# EAGLE library part ATTINY25-45-85_ (library NVSL)
Atmel ATtiny 25/45/85 Microcontroller with 2/4/8K Flash, 128/256/512 bytes EEPROM, and 128/256/512 bytes SRAM
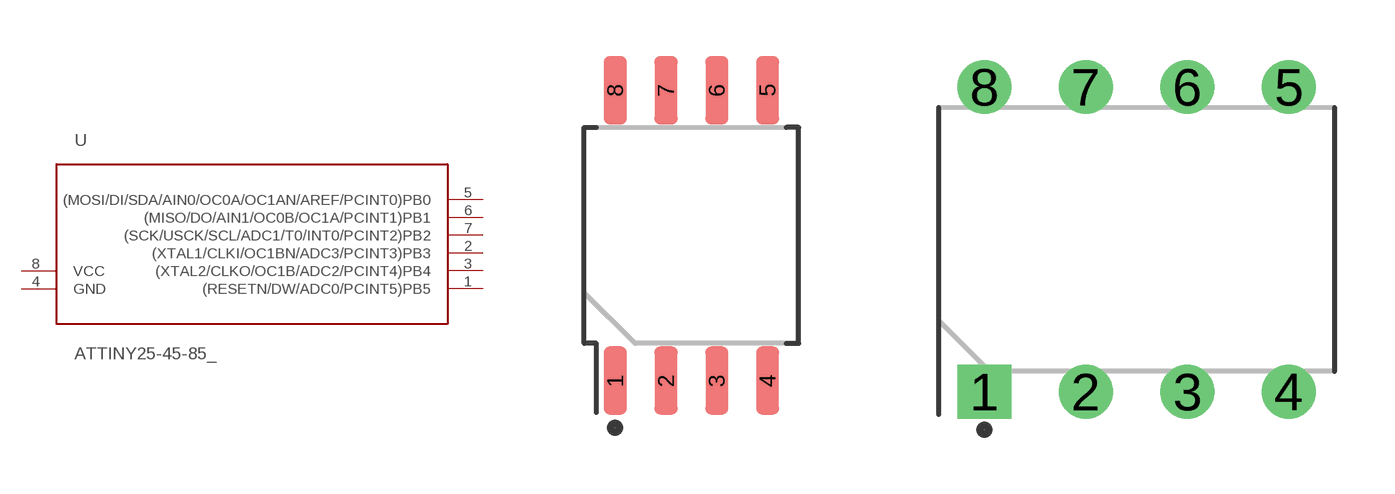
[diagram p6: symbol with the pads of SOIC127P798X216-8L34_HS; footprints SOIC127P798X216-8L34_HS, DIP762W26P254L990H368Q8_HS]

Designator prefix U

## ATTINY25-45-85_SMD-SOIC8-EIAJ  [SOIC127P798X216-8L34_HS]
1  (RESETN/DW/ADC0/PCINT5)PB5
2  (XTAL1/CLKI/OC1BN/ADC3/PCINT3)PB3
3  (XTAL2/CLKO/OC1B/ADC2/PCINT4)PB4
4  GND  pwr
5  (MOSI/DI/SDA/AIN0/OC0A/OC1AN/AREF/PCINT0)PB0
6  (MISO/DO/AIN1/OC0B/OC1A/PCINT1)PB1
7  (SCK/USCK/SCL/ADC1/T0/INT0/PCINT2)PB2
8  VCC  pwr

## ATTINY25-45-85_TH-DIP8  [DIP762W26P254L990H368Q8_HS]
Pads as for SOIC127P798X216-8L34_HS

## Footprint SOIC127P798X216-8L34_HS (pad centres in mm)
Small Outline IC (SOIC), 1.27 mm pitch; 8 pin, 5.24 mm L X 5.29 mm W X 2.16 mm H body PCB Libraries Packages
smd 0.58 x 1.71: 1 -1.905,-3.63; 2 -0.635,-3.63; 3 0.635,-3.63; 4 1.905,-3.63; 5 1.905,3.63; 6 0.635,3.63; 7 -0.635,3.63; 8 -1.905,3.63

## Footprint DIP762W26P254L990H368Q8_HS (pad centres in mm)
DIP, 7.62 mm lead span, 2.54 mm pitch; 8 pin, 9.906 mm L X 6.604 mm W X 3.683 mm H body PCB Libraries Packages
drill 0.84 pad 1.26 square: 1 -3.81,-3.81
drill 0.84 pad 1.26: 2 -1.27,-3.81; 3 1.27,-3.81; 4 3.81,-3.81; 5 3.81,3.81; 6 1.27,3.81; 7 -1.27,3.81; 8 -3.81,3.81